# EAGLE library part ADTT (library minicircuits)
Wide band RF transformer Center tapped
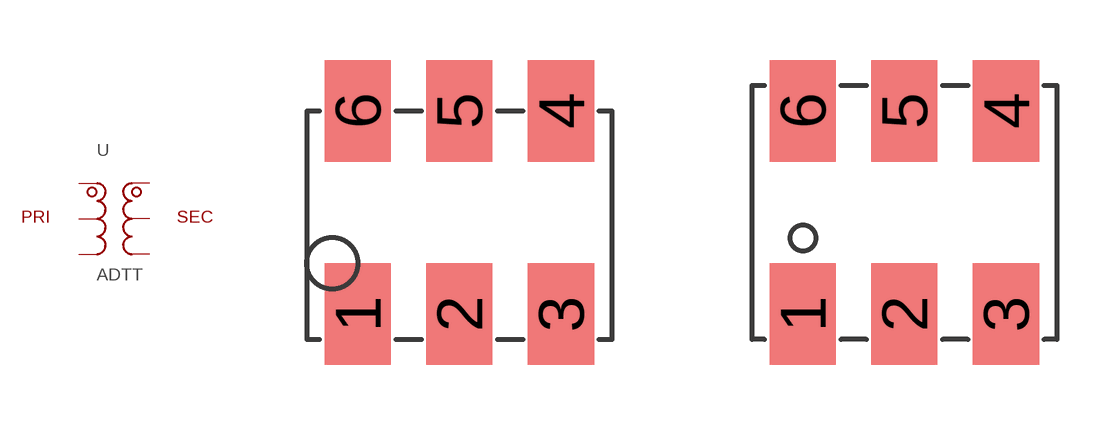
[diagram p12: symbol with the pads of CD542; footprints CD542, CD637]

Designator prefix -

## ADTT1-1  [CD542]
1  P2  pas
2  PT  pas
3  P1  pas
4  S1  pas
5  ST  pas
6  S2  pas

## ADTT1-6  [CD637]
Pads as for CD542

## ADTT1.5-1  [CD636]
Pads as for CD542

## ADTT3-2  [CD636]
Pads as for CD542

## ADTT4-1  [CD636]
Pads as for CD542

## Footprint CD542 (pad centres in mm)
CD542 http://www.minicircuits.com/cgi-bin/inquery.cgi?querystring=CD542&searchtype=case&x=22&y=9
smd 1.651 x 2.54: 1 0,1.27; 2 2.54,1.27; 3 5.08,1.27; 4 5.08,6.35; 5 2.54,6.35; 6 0,6.35

## Footprint CD637 (pad centres in mm)
smd 1.651 x 2.54: 1 0,0; 2 2.54,0; 3 5.08,0; 4 5.08,5.08; 5 2.54,5.08; 6 0,5.08

## Footprint CD636 (pad centres in mm)
CD636 http://www.minicircuits.com/cgi-bin/inquery.cgi?querystring=CD636&searchtype=case&x=21&y=7
smd 1.651 x 2.54: 1 0,0; 2 2.54,0; 3 5.08,0; 4 5.08,5.08; 5 2.54,5.08; 6 0,5.08